# EAGLE library part DFPLAYER (library MCE_Modulos)
DFPlayer Mini MP3 Player https://wiki.dfrobot.com/DFPlayer_Mini_SKU_DFR0299
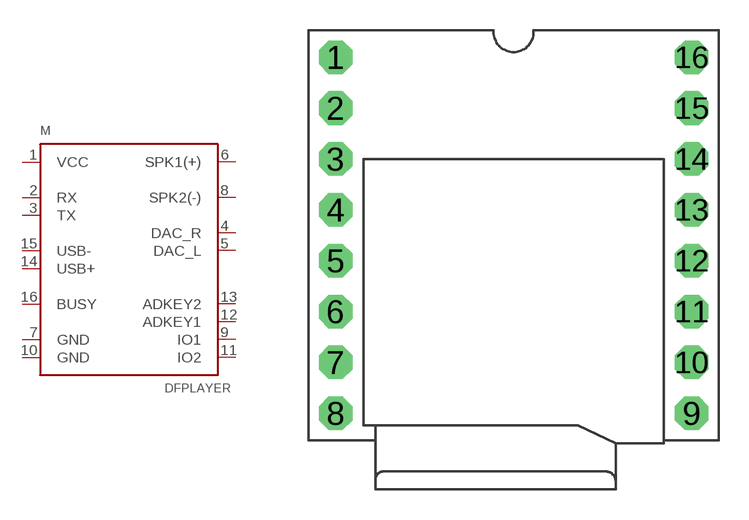
[diagram p8: symbol with the pads of DFPLAYER; footprint DFPLAYER]

Designator prefix M

## DFPLAYER  [DFPLAYER]
1  VCC  pwr
2  RX  in
3  TX  out
4  DAC_R
5  DAC_L
6  SPK1(+)  out
7  GND  pwr
8  SPK2(-)  out
9  IO1
10  GND
11  IO2
12  ADKEY1
13  ADKEY2
14  USB+
15  USB-
16  BUSY  out

## Footprint DFPLAYER (pad centres in mm)
drill 0.8 pad 1.676 octagon: 1 -8.89,8.89; 2 -8.89,6.35; 3 -8.89,3.81; 4 -8.89,1.27; 5 -8.89,-1.27; 6 -8.89,-3.81; 7 -8.89,-6.35; 8 -8.89,-8.89; 9 8.89,-8.89; 10 8.89,-6.35; 11 8.89,-3.81; 12 8.89,-1.27; 13 8.89,1.27; 14 8.89,3.81; 15 8.89,6.35; 16 8.89,8.89